# Altium footprint library PQFP-208_28x28x05P.PcbLib: 1 footprints
Each footprint in its own frame and in the unit in brackets; x right, y up, seen from the top. Pads: shape width x height; smd on the part's side, far side on the other; paste and mask are expansions set on the pad; w line width, h text height; cw(c..) or ccw(c..) is an arc to the next point about the centre after c.
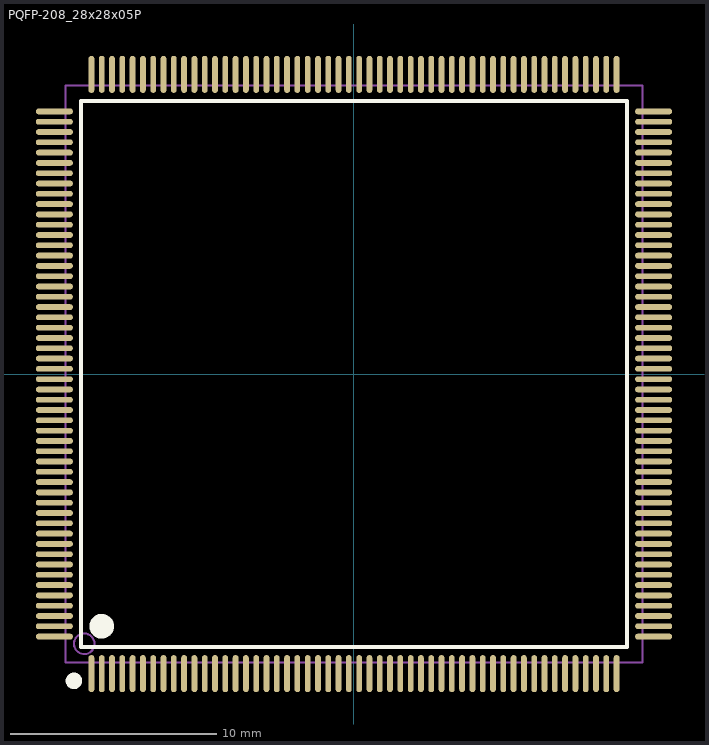
[diagram p0: the footprint, top view; thin cyan lines are the x and y axes]

## PQFP-208_28x28x05P [mm]
pads (208):
  oval 0.28x1.8 smd mask+0.051: 1(-12.75,-14.55) 2(-12.25,-14.55) 3(-11.75,-14.55) 4(-11.25,-14.55) 5(-10.75,-14.55) 6(-10.25,-14.55) 7(-9.75,-14.55) 8(-9.25,-14.55) 9(-8.75,-14.55) 10(-8.25,-14.55) 11(-7.75,-14.55) 12(-7.25,-14.55) 13(-6.75,-14.55) 14(-6.25,-14.55) 15(-5.75,-14.55) 16(-5.25,-14.55) 17(-4.75,-14.55) 18(-4.25,-14.55) 19(-3.75,-14.55) 20(-3.25,-14.55) 21(-2.75,-14.55) 22(-2.25,-14.55) 23(-1.75,-14.55) 24(-1.25,-14.55) 25(-0.75,-14.55) 26(-0.25,-14.55) 27(0.25,-14.55) 28(0.75,-14.55) 29(1.25,-14.55) 30(1.75,-14.55) 31(2.25,-14.55) 32(2.75,-14.55) 33(3.25,-14.55) 34(3.75,-14.55) 35(4.25,-14.55) 36(4.75,-14.55) 37(5.25,-14.55) 38(5.75,-14.55) 39(6.25,-14.55) 40(6.75,-14.55) 41(7.25,-14.55) 42(7.75,-14.55) 43(8.25,-14.55) 44(8.75,-14.55) 45(9.25,-14.55) 46(9.75,-14.55) 47(10.25,-14.55) 48(10.75,-14.55) 49(11.25,-14.55) 50(11.75,-14.55) 51(12.25,-14.55) 52(12.75,-14.55) 105(12.75,14.55) 106(12.25,14.55) 107(11.75,14.55) 108(11.25,14.55) 109(10.75,14.55) 110(10.25,14.55) 111(9.75,14.55) 112(9.25,14.55) 113(8.75,14.55) 114(8.25,14.55) 115(7.75,14.55) 116(7.25,14.55) 117(6.75,14.55) 118(6.25,14.55) 119(5.75,14.55) 120(5.25,14.55) 121(4.75,14.55) 122(4.25,14.55) 123(3.75,14.55) 124(3.25,14.55) 125(2.75,14.55) 126(2.25,14.55) 127(1.75,14.55) 128(1.25,14.55) 129(0.75,14.55) 130(0.25,14.55) 131(-0.25,14.55) 132(-0.75,14.55) 133(-1.25,14.55) 134(-1.75,14.55) 135(-2.25,14.55) 136(-2.75,14.55) 137(-3.25,14.55) 138(-3.75,14.55) 139(-4.25,14.55) 140(-4.75,14.55) 141(-5.25,14.55) 142(-5.75,14.55) 143(-6.25,14.55) 144(-6.75,14.55) 145(-7.25,14.55) 146(-7.75,14.55) 147(-8.25,14.55) 148(-8.75,14.55) 149(-9.25,14.55) 150(-9.75,14.55) 151(-10.25,14.55) 152(-10.75,14.55) 153(-11.25,14.55) 154(-11.75,14.55) 155(-12.25,14.55) 156(-12.75,14.55)
  oval 1.8x0.28 smd mask+0.051: 53(14.55,-12.75) 54(14.55,-12.25) 55(14.55,-11.75) 56(14.55,-11.25) 57(14.55,-10.75) 58(14.55,-10.25) 59(14.55,-9.75) 60(14.55,-9.25) 61(14.55,-8.75) 62(14.55,-8.25) 63(14.55,-7.75) 64(14.55,-7.25) 65(14.55,-6.75) 66(14.55,-6.25) 67(14.55,-5.75) 68(14.55,-5.25) 69(14.55,-4.75) 70(14.55,-4.25) 71(14.55,-3.75) 72(14.55,-3.25) 73(14.55,-2.75) 74(14.55,-2.25) 75(14.55,-1.75) 76(14.55,-1.25) 77(14.55,-0.75) 78(14.55,-0.25) 79(14.55,0.25) 80(14.55,0.75) 81(14.55,1.25) 82(14.55,1.75) 83(14.55,2.25) 84(14.55,2.75) 85(14.55,3.25) 86(14.55,3.75) 87(14.55,4.25) 88(14.55,4.75) 89(14.55,5.25) 90(14.55,5.75) 91(14.55,6.25) 92(14.55,6.75) 93(14.55,7.25) 94(14.55,7.75) 95(14.55,8.25) 96(14.55,8.75) 97(14.55,9.25) 98(14.55,9.75) 99(14.55,10.25) 100(14.55,10.75) 101(14.55,11.25) 102(14.55,11.75) 103(14.55,12.25) 104(14.55,12.75) 157(-14.55,12.75) 158(-14.55,12.25) 159(-14.55,11.75) 160(-14.55,11.25) 161(-14.55,10.75) 162(-14.55,10.25) 163(-14.55,9.75) 164(-14.55,9.25) 165(-14.55,8.75) 166(-14.55,8.25) 167(-14.55,7.75) 168(-14.55,7.25) 169(-14.55,6.75) 170(-14.55,6.25) 171(-14.55,5.75) 172(-14.55,5.25) 173(-14.55,4.75) 174(-14.55,4.25) 175(-14.55,3.75) 176(-14.55,3.25) 177(-14.55,2.75) 178(-14.55,2.25) 179(-14.55,1.75) 180(-14.55,1.25) 181(-14.55,0.75) 182(-14.55,0.25) 183(-14.55,-0.25) 184(-14.55,-0.75) 185(-14.55,-1.25) 186(-14.55,-1.75) 187(-14.55,-2.25) 188(-14.55,-2.75) 189(-14.55,-3.25) 190(-14.55,-3.75) 191(-14.55,-4.25) 192(-14.55,-4.75) 193(-14.55,-5.25) 194(-14.55,-5.75) 195(-14.55,-6.25) 196(-14.55,-6.75) 197(-14.55,-7.25) 198(-14.55,-7.75) 199(-14.55,-8.25) 200(-14.55,-8.75) 201(-14.55,-9.25) 202(-14.55,-9.75) 203(-14.55,-10.25) 204(-14.55,-10.75) 205(-14.55,-11.25) 206(-14.55,-11.75) 207(-14.55,-12.25) 208(-14.55,-12.75)
Top Overlay:
  circle w0.6: c-12.25,-12.25 r0.3
  circle w0.4: c-13.6,-14.9 r0.2
  lines w0.2: -13.25,-13.25 13.25,-13.25 13.25,13.25 -13.25,13.25 -13.25,-13.25
Mechanical 13:
  circle w0.1: c-13.1,-13.1 r0.5
  lines w0.1: -14,-14 14,-14 14,14 -14,14 -14,-14